# EAGLE library part REF5025 (library Components)
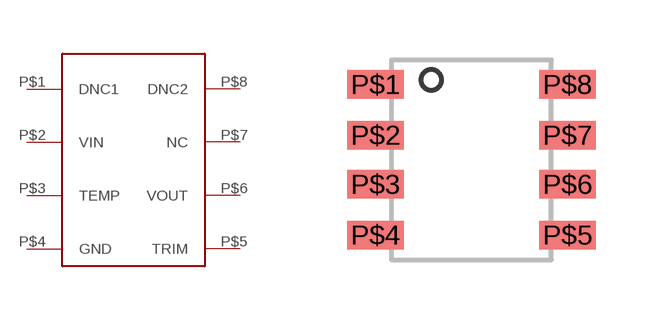
[diagram p1: symbol with the pads of REF5025; footprint REF5025]

Designator prefix -

## REF5025  [REF5025]
P$1  DNC1
P$2  VIN
P$3  TEMP
P$4  GND
P$5  TRIM
P$6  VOUT
P$7  NC
P$8  DNC2

## Footprint REF5025 (pad centres in mm)
smd 1.422 x 0.711: P$1 -2.4,1.885; P$2 -2.4,0.615; P$3 -2.4,-0.615; P$4 -2.4,-1.885; P$5 2.4,-1.885; P$6 2.4,-0.615; P$7 2.4,0.615; P$8 2.4,1.885